# Altium schematic symbol library board.SCHLIB: 9 symbols
Pins are listed as number, name and electrical type; pins without a type are passive.

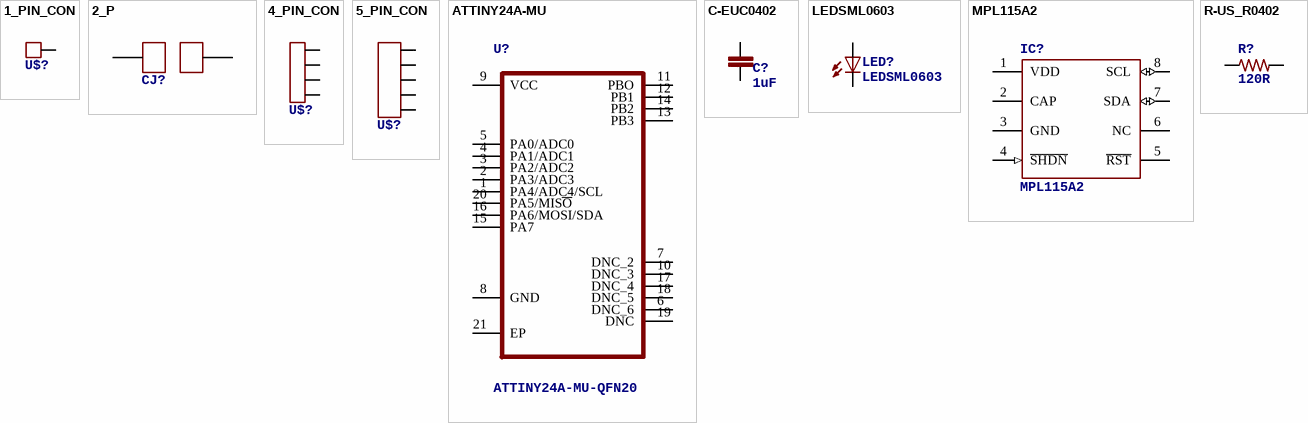
[diagram p0: symbols 1_PIN_CON to R-US_R0402]

## 1_PIN_CON
designator U$?  (value not drawn)
footprint 1_PIN_CON
pins: 1 RTS

## 2_P
designator CJ?  (value not drawn)
footprint 2_P
pins: P$1, P$2

## 4_PIN_CON
designator U$?  (value not drawn)
footprint 4_PIN_CON
pins: 1 CLK, 2 DATA, 3 VCC, 4 GND

## 5_PIN_CON
designator U$?  (value not drawn)
footprint 5_PIN_CON
pins: 1 CLK, 2 DATA, 3 VCC, 4 GND, 5 RST

## ATTINY24A-MU
designator U?, comment ATTINY24A-MU-QFN20
Microcontroller; MPN: ATTINY24A-MU; OC_FARNELL: 1748542; OC_NEWARK: 26R5649; PACKAGE: QFN-20; SUPPLIER: Atmel
footprint QFN50P400X400X80-21N
pins: 1 PA4/ADC4/SCL, 2 PA3/ADC3, 3 PA2/ADC2, 4 PA1/ADC1, 5 PA0/ADC0, 6 DNC_6, 7 DNC_2, 8 GND (power), 9 VCC (power), 10 DNC_3, 11 PBO, 12 PB1, 13 PB3, 14 PB2, 15 PA7, 16 PA6/MOSI/SDA, 17 DNC_4, 18 DNC_5, 19 DNC, 20 PA5/MIS~{O}, 21 EP

## C-EUC0402
designator C?, comment 1uF
CAPACITOR, European symbol
footprint C0402
footprint C0402NOMECH (C0402)
pins: 1, 2

## LEDSML0603
designator LED?
LED   OSRAM: - CHIPLED LG R971, LG N971, LY N971, LG Q971, LY Q971, LO R971, LY R971 LH N974, LH R974 LS Q976, LO Q976, LY Q976 LO Q996 - Hyper CHIPLED LW Q18S LB Q993, LB Q99A, LB R99A - SideLED LS A670, LO A670, LY A670, LG A670, LP A670 LB A673, LV A673, LT A673, LW A673 LH A674 LY A675 LS A676, LA A676, LO A676, LY A676, LW A676 LS A679, LY A679, LG A679 -  Hyper Micro SIDELED® LS Y876, LA Y876, LO Y876, LY Y876 LT Y87S - SmartLED LW L88C, LW L88S LB L89C, LB L89S, LG L890 LS L89K, LO L89K, LY L89K LS L896, LA L896, LO L896, LY L896 - TOPLED LS T670, LO T670, LY T670, LG T670, LP T670 LSG T670, LSP T670, LSY T670, LOP T670, LYG T670 LG T671, LOG T671, LSG T671 LB T673, LV T673, LT T673, LW T673 LH T674 LS T676, LA T676, LO T676, LY T676, LB T676, LH T676, LSB T676, LW T676 LB T67C, LV T67C, LT T67C, LS T67K, LO T67K, LY T67K, LW E67C LS E67B, LA E67B, LO E67B, LY E67B, LB E67C, LV E67C, LT E67C LW T67C LS T679, LY T679, LG T679 LS T770, LO T770, LY T770, LG T770, LP T770 LB T773, LV T773, LT T773, LW T773 LH T774 LS E675, LA E675, LY E675, LS T675 LS T776, LA T776, LO T776, LY T776, LB T776 LHGB T686 LT T68C, LB T68C - Hyper Mini TOPLED® LB M676 - Mini TOPLED Santana® LG M470 LS M47K, LO M47K, LY M47K    Source: http://www.osram.convergy.de   LUXEON: - LUMILED® LXK2-PW12-R00, LXK2-PW12-S00, LXK2-PW14-U00, LXK2-PW14-V00 LXK2-PM12-R00, LXK2-PM12-S00, LXK2-PM14-U00 LXK2-PE12-Q00, LXK2-PE12-R00, LXK2-PE12-S00, LXK2-PE14-T00, LXK2-PE14-U00 LXK2-PB12-K00, LXK2-PB12-L00, LXK2-PB12-M00, LXK2-PB14-N00, LXK2-PB14-P00, LXK2-PB14-Q00 LXK2-PR12-L00, LXK2-PR12-M00, LXK2-PR14-Q00, LXK2-PR14-R00 LXK2-PD12-Q00, LXK2-PD12-R00, LXK2-PD12-S00 LXK2-PH12-R00, LXK2-PH12-S00 LXK2-PL12-P00, LXK2-PL12-Q00, LXK2-PL12-R00    Source: www.luxeon.com   KINGBRIGHT:   KA-3528ASYC Source: www.kingbright.com
footprint SML0603
pins: A, C

## MPL115A2
designator IC?
footprint MPL115A2
pins: 1 VDD (power), 2 CAP, 3 GND (power), 4 ~{SHDN} (in), 5 ~{RST}, 6 NC, 7 SDA (io), 8 SCL (io)

## R-US_R0402
designator R?, comment 120R
RESISTOR, American symbol
footprint R0402
pins: 1, 2